# EAGLE library part 74F541SC (library Fairchild_By_element14_Batch_1)
Octal Buffer/Line Driver with 3-STATE Outputs
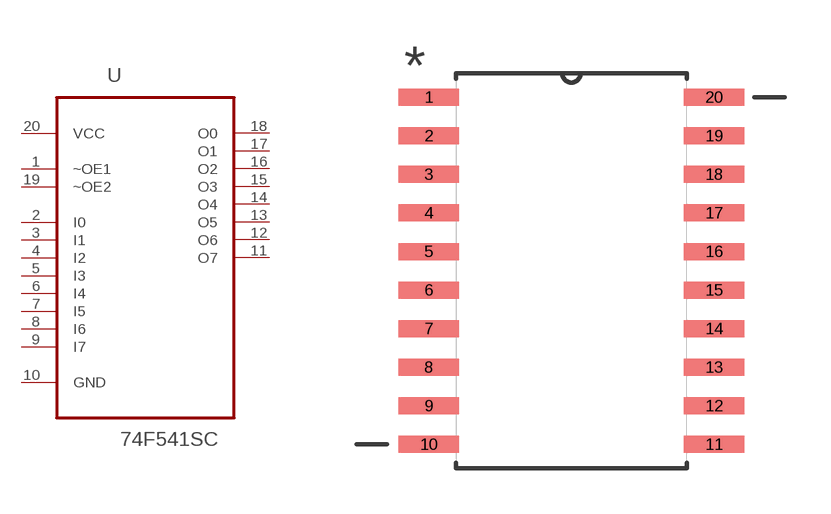
[diagram p62: symbol with the pads of SOIC127P1032X265-20N; footprint SOIC127P1032X265-20N]

Designator prefix U

## 74F541SC (MPN: 74F541SC; OC_FARNELL: -; OC_NEWARK: 78K6264; PACKAGE: SOIC-20; SUPPLIER: Fairchild)  [SOIC127P1032X265-20N]
1  ~OE1  in
2  I0  in
3  I1  in
4  I2  in
5  I3  in
6  I4  in
7  I5  in
8  I6  in
9  I7  in
10  GND  pas
11  O7  out
12  O6  out
13  O5  out
14  O4  out
15  O3  out
16  O2  out
17  O1  out
18  O0  out
19  ~OE2  in
20  VCC  pwr

## Footprint SOIC127P1032X265-20N (pad centres in mm)
smd 1.981 x 0.559: 1 -4.699,5.715; 2 -4.699,4.445; 3 -4.699,3.175; 4 -4.699,1.905; 5 -4.699,0.635; 6 -4.699,-0.635; 7 -4.699,-1.905; 8 -4.699,-3.175; 9 -4.699,-4.445; 10 -4.699,-5.715; 11 4.699,-5.715; 12 4.699,-4.445; 13 4.699,-3.175; 14 4.699,-1.905; 15 4.699,-0.635; 16 4.699,0.635; 17 4.699,1.905; 18 4.699,3.175; 19 4.699,4.445; 20 4.699,5.715